# Altium schematic symbol library SCH - CONNECTORS - TE 173864.Schlib: 1 symbol
Pins are listed as number, name and electrical type; pins without a type are passive.

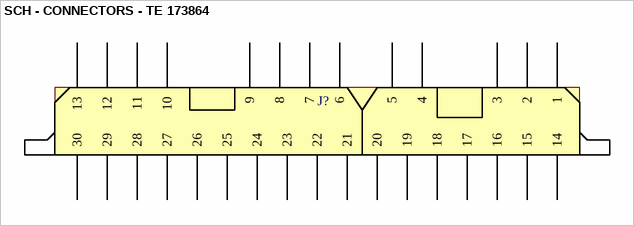
[diagram p0: symbol SCH - CONNECTORS - TE 173864]

## SCH - CONNECTORS - TE 173864
designator J?
footprint TE_173866-1 (070 MULTILOCK CAP ASSY 30P)
pins: 1, 2, 3, 4, 5, 6, 7, 8, 9, 10, 11, 12, 13, 14, 15, 16, 17, 18, 19, 20, 21, 22, 23, 24, 25, 26, 27, 28, 29, 30